# Altium schematic symbol library PCA9517DP,118.Schlib: 1 symbol
Pins are listed as number, name and electrical type; pins without a type are passive.

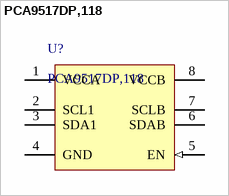
[diagram p0: symbol PCA9517DP,118]

## PCA9517DP,118
designator U?
Buffer, ReDriver 2 Channel 400kHz 8-TSSOP
pins: 1 VCCA (power), 2 SCL1 (oc), 3 SDA1 (oc), 4 GND (power), 5 EN (in), 6 SDAB (oc), 7 SCLB (oc), 8 VCCB (power)